# Altium footprint library 1P5SMC400A.PcbLib: 3 footprints
Each footprint in its own frame and in the unit in brackets; x right, y up, seen from the top. Pads: shape width x height; smd on the part's side, far side on the other; paste and mask are expansions set on the pad; w line width, h text height; cw(c..) or ccw(c..) is an arc to the next point about the centre after c.
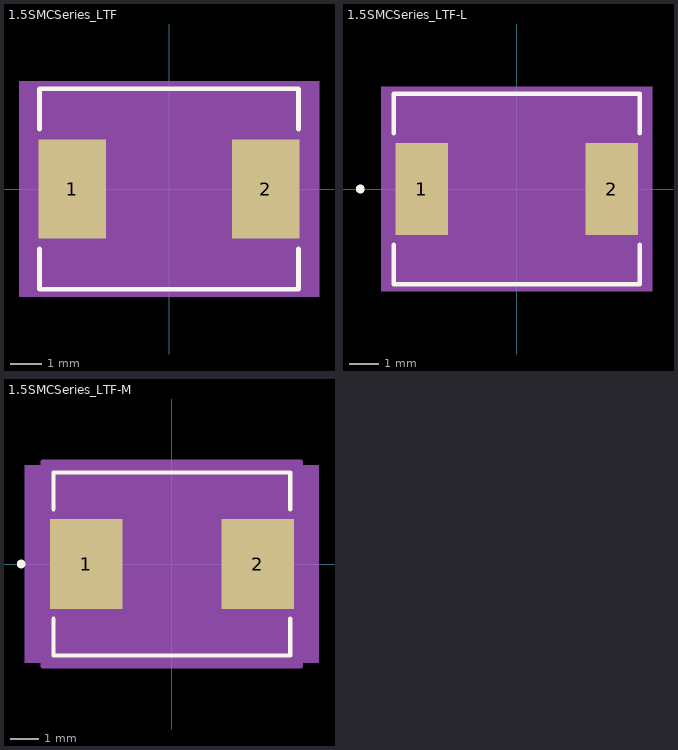
[diagram p0: the footprints below, top view; thin cyan lines are the x and y axes]

## 1.5SMCSeries_LTF [mil]
pads (2):
  rect 86x126 smd paste+0 mask+0: 1(-123,0) 2(123,0)
Top Overlay:
  lines w6: -165,-76.1 -165,-127.5 165,-127.5 165,-76.1 ; -165,76.1 -165,127.5 165,127.5 165,76.1
Mechanical 5:
  region: 191,-137.5 -191,-137.5 -191,137.5 191,137.5
Mechanical 13:
  circle w0: c-140,0 r0
  lines w1: -160,-122.5 160,-122.5 160,122.5 -160,122.5 -160,-122.5
Mechanical 15:
  region: -170,-73 -176,-73 -176,73 -170,73 -170,132.5 170,132.5 170,73 176,73 176,-73 170,-73 170,-132.5 -170,-132.5
  lines w6: -176,-73 -176,73 -170,73 -170,132.5 170,132.5 170,73 176,73 176,-73 170,-73 170,-132.5 -170,-132.5 -170,-73 -176,-73
3D body: height 10, standoff 0, extent 0,0 10,10

## 1.5SMCSeries_LTF-L [mil]
pads (2):
  rect 71x124 smd paste+0 mask+0: 1(-127.5,0) 2(127.5,0)
Top Overlay:
  circle w6: c-210,0 r3
  lines w6: -165,-74.95 -165,-127.5 165,-127.5 165,-74.95 ; -165,74.95 -165,127.5 165,127.5 165,74.95
Mechanical 5:
  region: 182,-137.5 -182,-137.5 -182,137.5 182,137.5
Mechanical 13:
  circle w0: c-140,0 r3
  lines w1: -160,-122.5 160,-122.5 160,122.5 -160,122.5 -160,-122.5
Mechanical 15:
  region: -164,-67 -167,-67 -167,67 -164,67 -164,126.5 164,126.5 164,67 167,67 167,-67 164,-67 164,-126.5 -164,-126.5
  lines w6: -167,-67 -167,67 -164,67 -164,126.5 164,126.5 164,67 167,67 167,-67 164,-67 164,-126.5 -164,-126.5 -164,-67 -167,-67
3D body: height 10, standoff 0, extent 0,0 10,10

## 1.5SMCSeries_LTF-M [mil]
pads (2):
  rect 101x126 smd paste+0 mask+0: 1(-119.5,0) 2(119.5,0)
Top Overlay:
  circle w6: c-210,0 r3
  lines w6: -165,-76.1 -165,-127.5 165,-127.5 165,-76.1 ; -165,76.1 -165,127.5 165,127.5 165,76.1
Mechanical 5:
  region: 205,-137.5 -205,-137.5 -205,137.5 205,137.5
Mechanical 13:
  circle w0: c-140,0 r3
  lines w1: -160,-122.5 160,-122.5 160,122.5 -160,122.5 -160,-122.5
Mechanical 15:
  region: -180,-83 -190,-83 -190,83 -180,83 -180,142.5 180,142.5 180,83 190,83 190,-83 180,-83 180,-142.5 -180,-142.5
  lines w6: -190,-83 -190,83 -180,83 -180,142.5 180,142.5 180,83 190,83 190,-83 180,-83 180,-142.5 -180,-142.5 -180,-83 -190,-83
3D body: height 10, standoff 0, extent 0,0 10,10